# EAGLE library part 692141030100 (library USB3IO)
WR-COM USB 3.0 STACKED TYPE A=>Code : Con_I-O_COM_USB-3.0_A_6921410303100 <http://katalog.we-online.de/media/images/eican/Con_I-O_COM_USB-3.0_A_6921410303100_pf2.jpg> Details see: http://katalog.we-online.de/en/em/692_141_030_100 Created 2014-07-09, Karrer Zheng 2014 (C) Würth Elektronik
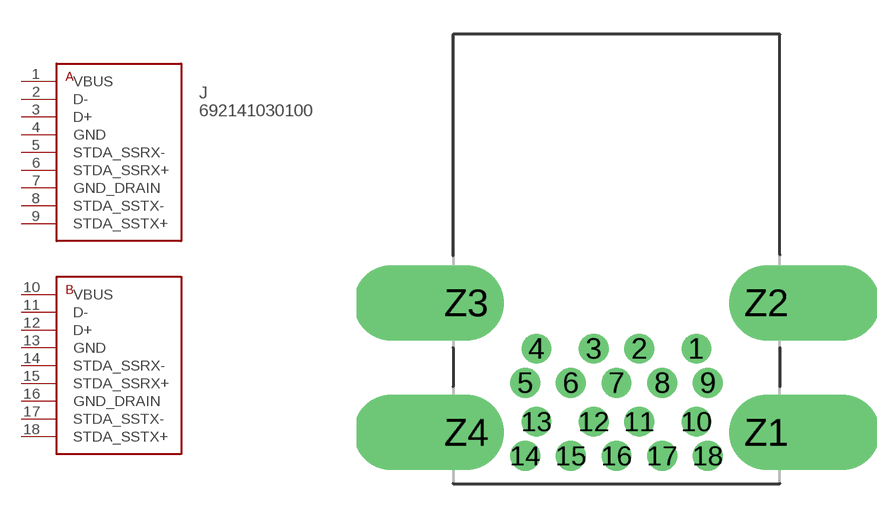
[diagram p86: symbol with the pads of 692141030100; footprint 692141030100]

Designator prefix J

## 692141030100  [692141030100]
1  VBUS
2  D-
3  D+
4  GND
5  STDA_SSRX-
6  STDA_SSRX+
7  GND_DRAIN
8  STDA_SSTX-
9  STDA_SSTX+
10  VBUS
11  D-
12  D+
13  GND
14  STDA_SSRX-
15  STDA_SSRX+
16  GND_DRAIN
17  STDA_SSTX-
18  STDA_SSTX+

## Footprint 692141030100 (pad centres in mm)
WR-COM USB 3.0 STACKED TYPE A
drill 0.7 pad 1.3: 1 3.5,4.7; 2 1,4.7; 3 -1,4.7; 4 -3.5,4.7; 5 -4,3.2; 6 -2,3.2; 7 0,3.2; 8 2,3.2; 9 4,3.2; 10 3.5,1.5; 11 1,1.5; 12 -1,1.5; 13 -3.5,1.5; 14 -4,0; 15 -2,0; 16 0,0; 17 2,0; 18 4,0
drill 2.3 offset: Z1 6.57,1.02; Z2 6.57,6.7; Z3 -6.57,6.7; Z4 -6.57,1.02